# Altium footprint library Atmel.PcbLib: 1 footprints
Each footprint in its own frame and in the unit in brackets; x right, y up, seen from the top. Pads: shape width x height; smd on the part's side, far side on the other; paste and mask are expansions set on the pad; w line width, h text height; cw(c..) or ccw(c..) is an arc to the next point about the centre after c.
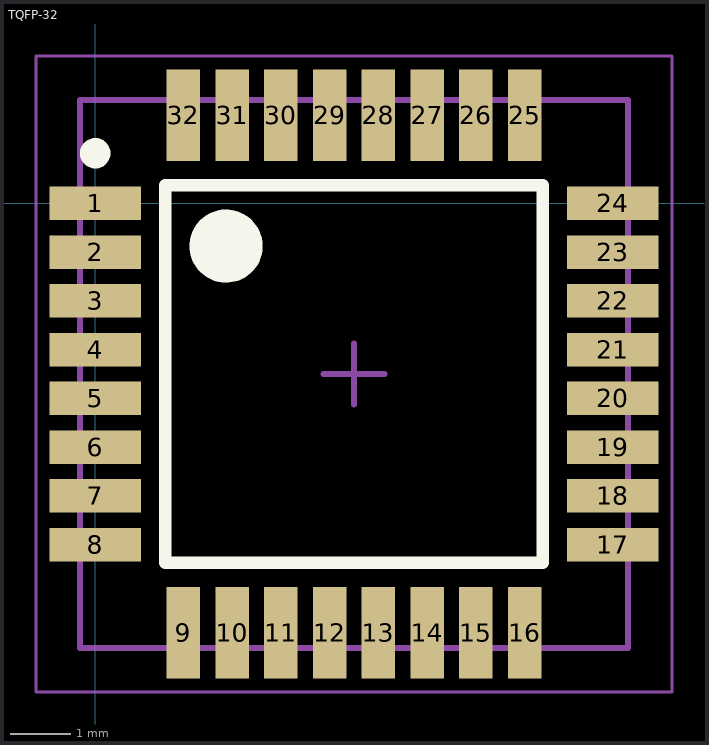
[diagram p0: the footprint, top view; thin cyan lines are the x and y axes]

## TQFP-32 [mm] "TQFP, 32-Leads, Body 7,00x7,00mm, Pitch 0,80mm, IPC Medium Density"
height 1.2
pads (32):
  rect 1.5x0.55 smd: 1(0,0) 2(0,-0.8) 3(0,-1.6) 4(0,-2.4) 5(0,-3.2) 6(0,-4) 7(0,-4.8) 8(0,-5.6) 17(8.5,-5.6) 18(8.5,-4.8) 19(8.5,-4) 20(8.5,-3.2) 21(8.5,-2.4) 22(8.5,-1.6) 23(8.5,-0.8) 24(8.5,0)
  rect 0.55x1.5 smd: 9(1.45,-7.05) 10(2.25,-7.05) 11(3.05,-7.05) 12(3.85,-7.05) 13(4.65,-7.05) 14(5.45,-7.05) 15(6.25,-7.05) 16(7.05,-7.05) 25(7.05,1.45) 26(6.25,1.45) 27(5.45,1.45) 28(4.65,1.45) 29(3.85,1.45) 30(3.05,1.45) 31(2.25,1.45) 32(1.45,1.45)
Top Overlay:
  circle w0.6: c2.15,-0.7 r0.3
  circle w0.25: c0,0.825 r0.125
  lines w0.2: 1.15,-5.9 7.35,-5.9 7.35,0.3 1.15,0.3 1.15,-5.9
Mechanical 1:
  lines w0.1: -0.25,-7.3 -0.25,1.7 8.75,1.7 8.75,-7.3 -0.25,-7.3
Mechanical 15:
  lines w0.05: -0.975,-8.025 9.475,-8.025 9.475,2.425 -0.975,2.425 -0.975,-8.025
  lines w0.1: 3.75,-2.8 4.75,-2.8 ; 4.25,-3.3 4.25,-2.3
3D body "TQFP-32_7x7mm_P0.8mm.step": height 1.1, standoff 0, extent -0.25,-7.3 8.75,1.7